# Altium footprint library JTAG_Adapter.PcbLib: 1 footprints
Each footprint in its own frame and in the unit in brackets; x right, y up, seen from the top. Pads: shape width x height; smd on the part's side, far side on the other; paste and mask are expansions set on the pad; w line width, h text height; cw(c..) or ccw(c..) is an arc to the next point about the centre after c.
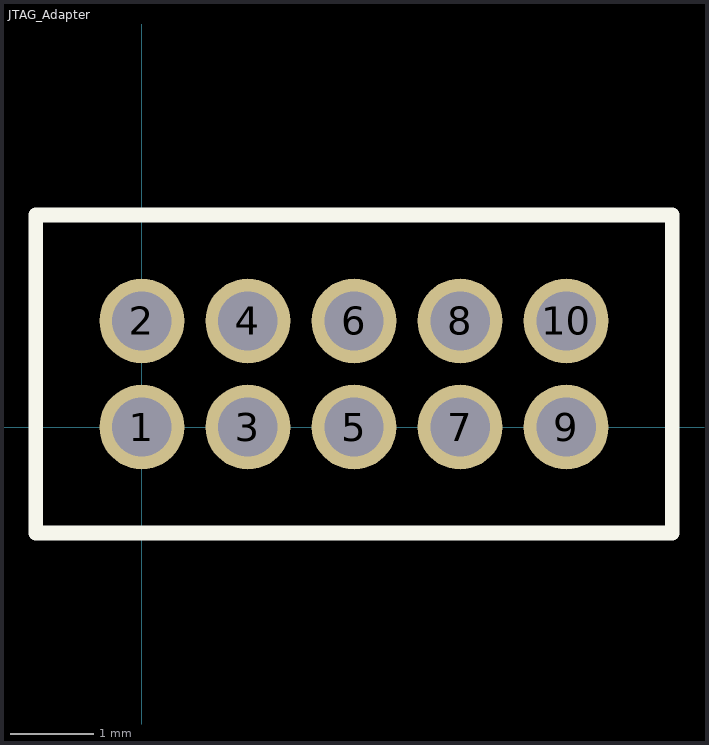
[diagram p0: the footprint, top view; thin cyan lines are the x and y axes]

## JTAG_Adapter [mil] ".05\" 10-pin dual row connector for JTAG adapter."
pads (10):
  round 40 hole 28 paste+0 mask+0: 1(0,0) 2(0,50) 3(50,0) 4(50,50) 5(100,0) 6(100,50) 7(150,0) 8(150,50) 9(200,0) 10(200,50)
Top Overlay:
  lines w7: -50,-50 250,-50 250,100 -50,100 -50,-50